# EAGLE library part CONN-16 (library Hoektronics)
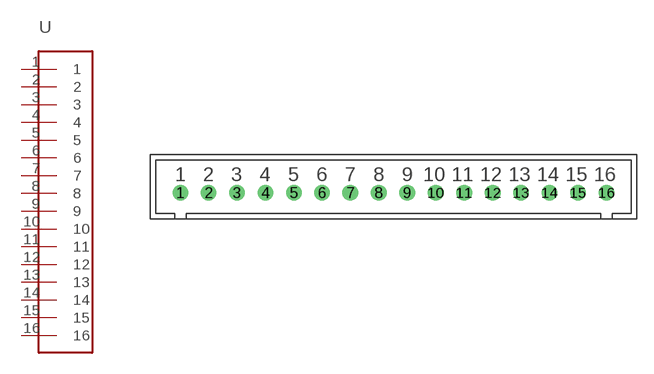
[diagram p17: symbol with the pads of XH-16; footprint XH-16]

Designator prefix -

## CONN-16  [XH-16]
1  1
2  2
3  3
4  4
5  5
6  6
7  7
8  8
9  9
10  10
11  11
12  12
13  13
14  14
15  15
16  16

## Footprint XH-16 (pad centres in mm)
drill 0.9: 1 -6.31,0; 2 -3.81,0; 3 -1.27,0; 4 1.27,0; 5 3.81,0; 6 6.31,0; 7 8.85,0; 8 11.39,0; 9 13.93,0; 10 16.47,0; 11 19.01,0; 12 21.55,0; 13 24.09,0; 14 26.63,0; 15 29.17,0; 16 31.71,0